# EAGLE library part CONN-RECT-6PIN-2ROW (library FirePick)
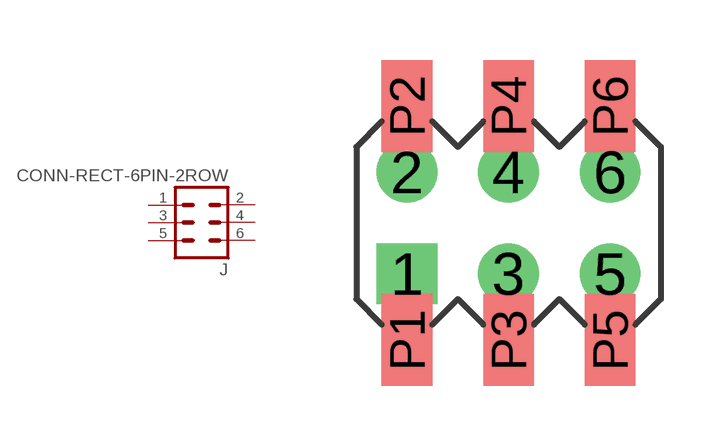
[diagram p4: symbol with the pads of CONN-RECT-2.54MM-6-PIN-2ROW-SMTH; footprint CONN-RECT-2.54MM-6-PIN-2ROW-SMTH]

Designator prefix J

## CONN-RECT-6PIN-2ROW  [CONN-RECT-2.54MM-6-PIN-2ROW-SMTH]
1  1  pas
2  2  pas
3  3  pas
4  4  pas
5  5  pas
6  6  pas

## Footprint CONN-RECT-2.54MM-6-PIN-2ROW-SMTH (pad centres in mm)
drill 1.016 square: 1 -2.54,-1.27
drill 1.016: 2 -2.54,1.27; 3 0,-1.27; 4 0,1.27; 5 2.54,-1.27; 6 2.54,1.27
smd 1.27 x 2.3: P1 -2.54,-2.93; P2 -2.54,2.93; P3 0,-2.93; P4 0,2.93; P5 2.54,-2.93; P6 2.54,2.93